# Altium integrated library ESD9B5.0ST5G.IntLib: 1 symbol
Pins are listed as number, name and electrical type; pins without a type are passive.

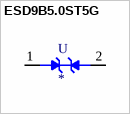
[diagram p0: symbol ESD9B5.0ST5G]

## ESD9B5.0ST5G
designator U
Clamp Ipp Tvs Diode Surface Mount SOD-923; MF: ON Semiconductor; MP: ESD9B5.0ST5G; Price: None; Availability: Unavailable; Package: SOD-923 ON Semiconductor; SnapEDA_Link: https://www.snapeda.com/parts/ESD9B5.0ST5G/ON%20Semiconductor/view-part/239806/?ref=snap; Value: *
footprint SODFL1006X40N
pins: 1 A, 2 A1